# EAGLE library part TPS2024P (library crasbe)
Texas Instruments TPS2024P The TPS202x family of power distribution switches is intended for applications where heavy capacitive loads and short circuits are likely to be encountered. These devices are 50-mΩ N-channel MOSFET high-side power switches. The switch is controlled by a logic enable compatible with 5-V logic and 3-V logic. Gate drive is provided by an internal charge pump designed to control the power-switch rise times and fall times to minimize current surges during switching. The charge pump requires no external components and allows operation from supplies as low as 2.7 V.
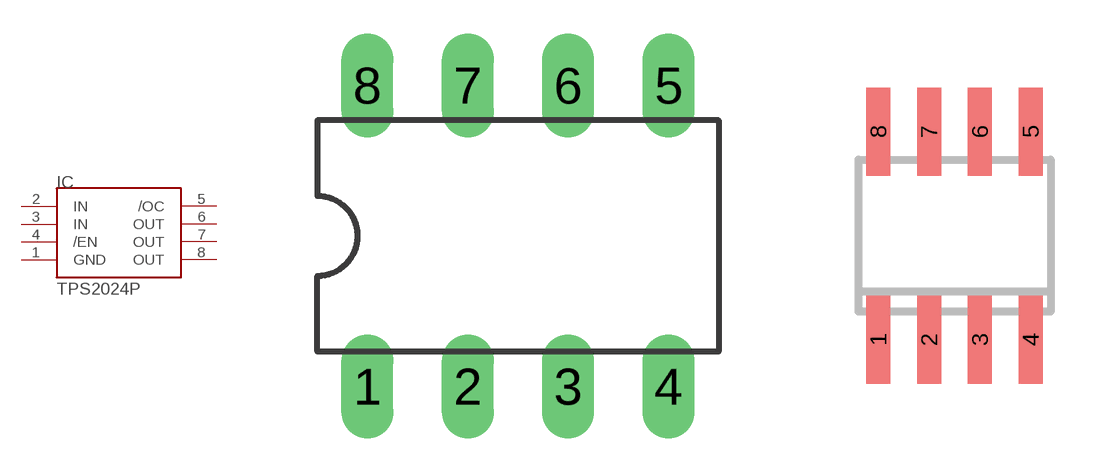
[diagram p7: symbol with the pads of DIP-8; footprints DIP-8, SOIC-8]

Designator prefix IC

## TPS2024P, TPS2024PSOIC  [DIP-8]
1  GND  pwr
2  IN  pwr
3  IN  pwr
4  /EN  in
5  /OC  out
6  OUT  sup
7  OUT  sup
8  OUT  sup

## TPS2024PSMD  [SOIC-8]
Pads as for DIP-8

## Footprint DIP-8 (pad centres in mm)
drill 0.813 long: 1 -3.81,-3.81; 2 -1.27,-3.81; 3 1.27,-3.81; 4 3.81,-3.81; 5 3.81,3.81; 6 1.27,3.81; 7 -1.27,3.81; 8 -3.81,3.81

## Footprint SOIC-8 (pad centres in mm)
smd 0.6 x 2.2: 1 -1.905,-2.6; 2 -0.635,-2.6; 3 0.635,-2.6; 4 1.905,-2.6; 5 1.905,2.6; 6 0.635,2.6; 7 -0.635,2.6; 8 -1.905,2.6